# EAGLE library part 39-30-106 (library connectors)
Mini-Fit Jr Right Angle Header assembly with mounting pegs
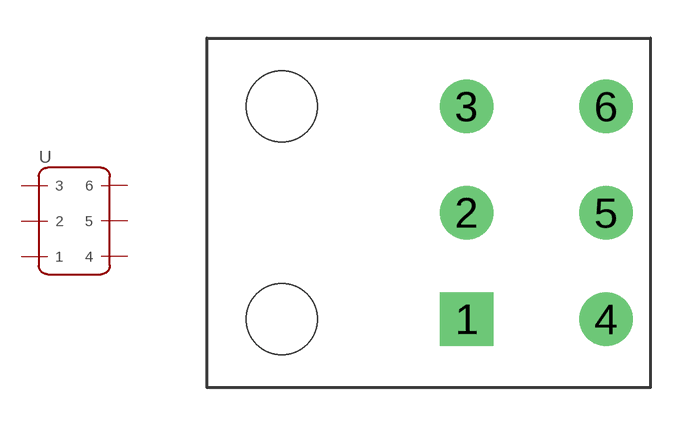
[diagram p7: symbol with the pads of 39-30-106X; footprint 39-30-106X]

Designator prefix -

## 39-30-106 (MF: MOLEX; MPN: 39-30-1061; REVIEWED: NO; TESTED: NO)  [39-30-106X]
1  1
2  2
3  3
4  4
5  5
6  6

## Footprint 39-30-106X (pad centres in mm)
drill 1.4 square: 1 -2.75,-4.2
drill 1.4: 2 -2.75,0; 3 -2.75,4.2; 4 2.75,-4.2; 5 2.75,0; 6 2.75,4.2
hole 2.8 at -10.05,-4.2
hole 2.8 at -10.05,4.2